# Altium schematic symbol library 接口类.SchLib: 14 symbols
Pins are listed as number, name and electrical type; pins without a type are passive.

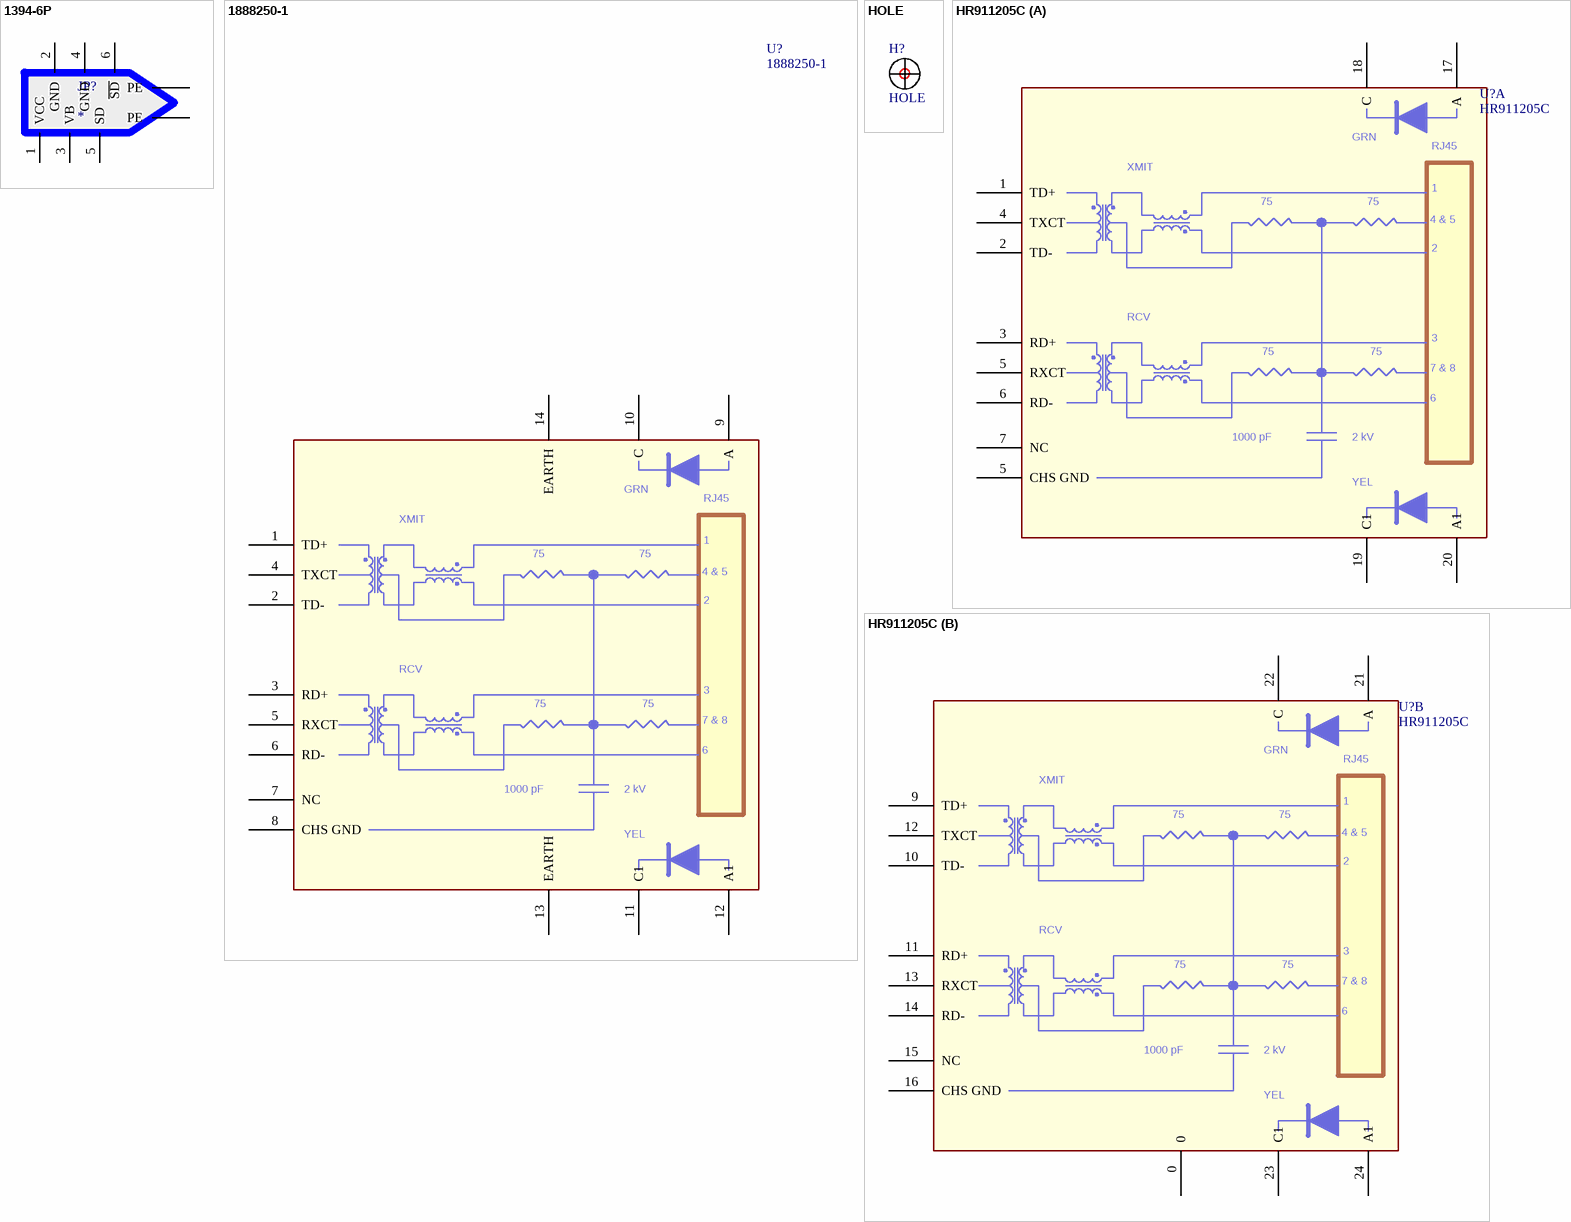
[diagram p0: symbols 1394-6P to HR911205C]

## 1394-6P
designator JP?
IEEE 1394 FireWire接口
footprint 1394-6P
pins: 1 VCC, 2 GND, 3 VB, 4 GND, 5 SD, 6 ~{SD}, 7 PE, 8 PE

## 1888250-1
designator U?
footprint CONN12_USB1888250_TEC
pins: 1 TD+, 2 TD-, 3 RD+, 4 TXCT, 5 RXCT, 6 RD-, 7 NC, 8 CHS GND, 9 A, 10 C, 11 C1, 12 A1, 13 EARTH, 14 EARTH
text: GRN; RJ45; XMIT; 75; 4 & 5; RCV; 7 & 8; 1000 pF; 2 kV; YEL

## HOLE
designator H?
footprint 定位孔 Φ3 1
pins: 1

## HR911205C
designator U?
HR911205C_A: *; HR911205C_B: *
footprint HR911205C
part A pins: 1 TD+, 2 TD-, 3 RD+, 4 TXCT, 5 RXCT, 5 CHS GND, 6 RD-, 7 NC, 17 A, 18 C, 19 C1, 20 A1
part B pins: 0, 9 TD+, 10 TD-, 11 RD+, 12 TXCT, 13 RXCT, 14 RD-, 15 NC, 16 CHS GND, 21 A, 22 C, 23 C1, 24 A1
part A text: GRN; RJ45; XMIT; 75; 4 & 5; RCV; 7 & 8; 1000 pF; 2 kV; YEL
part B text: GRN; RJ45; XMIT; 75; 4 & 5; RCV; 7 & 8; 1000 pF; 2 kV; YEL

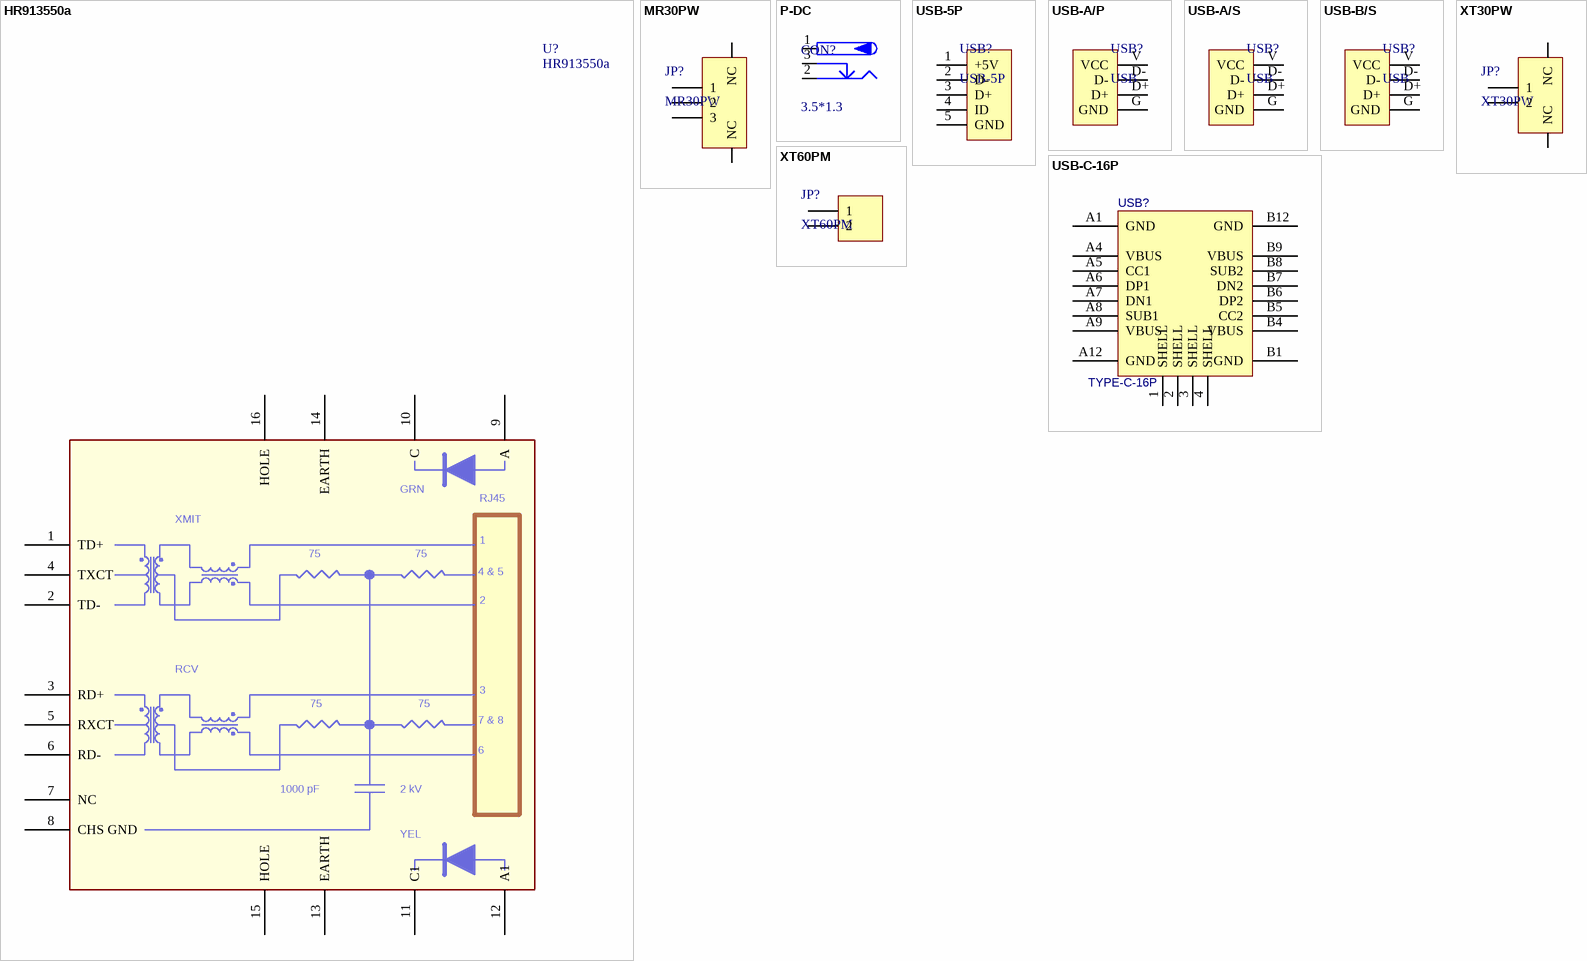
[diagram p1: symbols HR913550a to XT60PM]

## HR913550a
designator U?
HR911205C_A: *; HR911205C_B: *
footprint RJ45-TH_HR913550A (网线接口)
pins: 1 TD+, 2 TD-, 3 RD+, 4 TXCT, 5 RXCT, 6 RD-, 7 NC, 8 CHS GND, 9 A, 10 C, 11 C1, 12 A1, 13 EARTH, 14 EARTH, 15 HOLE, 16 HOLE
text: GRN; RJ45; XMIT; 75; 4 & 5; RCV; 7 & 8; 1000 pF; 2 kV; YEL

## MR30PW
designator JP?
footprint MR30PW-M
footprint MR30PW-FB
pins: 1, 2, 3, 4 NC, 5 NC

## P-DC
designator CON?, comment 3.5*1.3
低压电源接口; BOM名称: DC电源接口; 版权归属: 源创客; 学习资源: www.ooocke.com
footprint DC-012 (5.5*2.1)
footprint DC-005 (5.5*2.1mm，DC30V,2.5A)
footprint DC-002 (3.5*1.1mm,)
footprint DC-003 (3.5*1.1mm)
footprint DC-003A (3.5*1.1mm)
footprint DC-050 (5.5*2.1)
pins: 1 (power), 2 (power), 3 (power)

## USB-5P
designator USB?
微型USB母座; 版权归属: 源创客; BOM名称: 微型USB母座; 学习资源: www.ooocke.com
footprint USB-MICRO_A (micro型USB ，5.9*8.2*2.5mm)
footprint USB-MICRO_B (micro型USB ，5.7*7.8*2.5mm)
footprint USB-MINI-A (MINI型USB，7.9*7.5*4.1mm)
pins: 1 +5V, 2 D-, 3 D+, 4 ID, 5 GND

## USB-A/P
designator USB?, comment USB
USB-A型公接口; 版权归属: 源创客; BOM名称: USB-A型公接口; 学习资源: www.ooocke.com
footprint USB_A/P_A (A型USB 插头，20*13*4.5mm)
footprint USB_A/P_A (A型USB 插头，20*13*4.5mm)
pins: D+, D-, G GND, V VCC

## USB-A/S
designator USB?, comment USB
USB-A型母接口; 版权归属: 源创客; BOM名称: USB-A型母接口; 学习资源: www.ooocke.com
footprint USB-A/S_B (A型贴片母头，)
footprint USB-A/S_A (A型直插母头，)
footprint USB-A/S_C (A型贴片母头，)
footprint USB-A/S_D (A型直插母头，)
footprint USB-A/S_E (A型直插母头，)
pins: D+, D-, G GND, V VCC

## USB-B/S
designator USB?, comment USB
USB-B型母接口; 版权归属: 源创客; BOM名称: USB-B型母接口; 学习资源: www.ooocke.com
footprint USB-B/S_A (b型USB 母座 16.3*13.7*11mm)
pins: D+, D-, G GND, V VCC

## USB-C-16P
designator USB?, comment TYPE-C-16P
BOM_Manufacturer: Shenzhen Kinghelm Elec; BOM_Manufacturer Part: KH-TYPE-C-16P; Contributor: LCSC; BOM_Supplier: LCSC; BOM_Supplier Part: C709357; BOM_JLCPCB Part Class: Extended Part; spicePre: U; spiceSymbolName: KH-TYPE-C-16P
footprint USB-C_16P
pins: 1 SHELL, 2 SHELL, 3 SHELL, 4 SHELL, A1 GND, A4 VBUS, A5 CC1, A6 DP1, A7 DN1, A8 SUB1, A9 VBUS, A12 GND, B1 GND, B4 VBUS, B5 CC2, B6 DP2, B7 DN2, B8 SUB2, B9 VBUS, B12 GND

## XT30PW
designator JP?
footprint XT30PW-M
pins: 1, 2, 3 NC, 4 NC

## XT60PM
designator JP?
footprint XT60PM
pins: 1, 2